# Altium footprint library FlybackKutuphane.PcbLib: 22 footprints (part 1 of 2)
Each footprint in its own frame and in the unit in brackets; x right, y up, seen from the top. Pads: shape width x height; smd on the part's side, far side on the other; paste and mask are expansions set on the pad; w line width, h text height; cw(c..) or ccw(c..) is an arc to the next point about the centre after c.
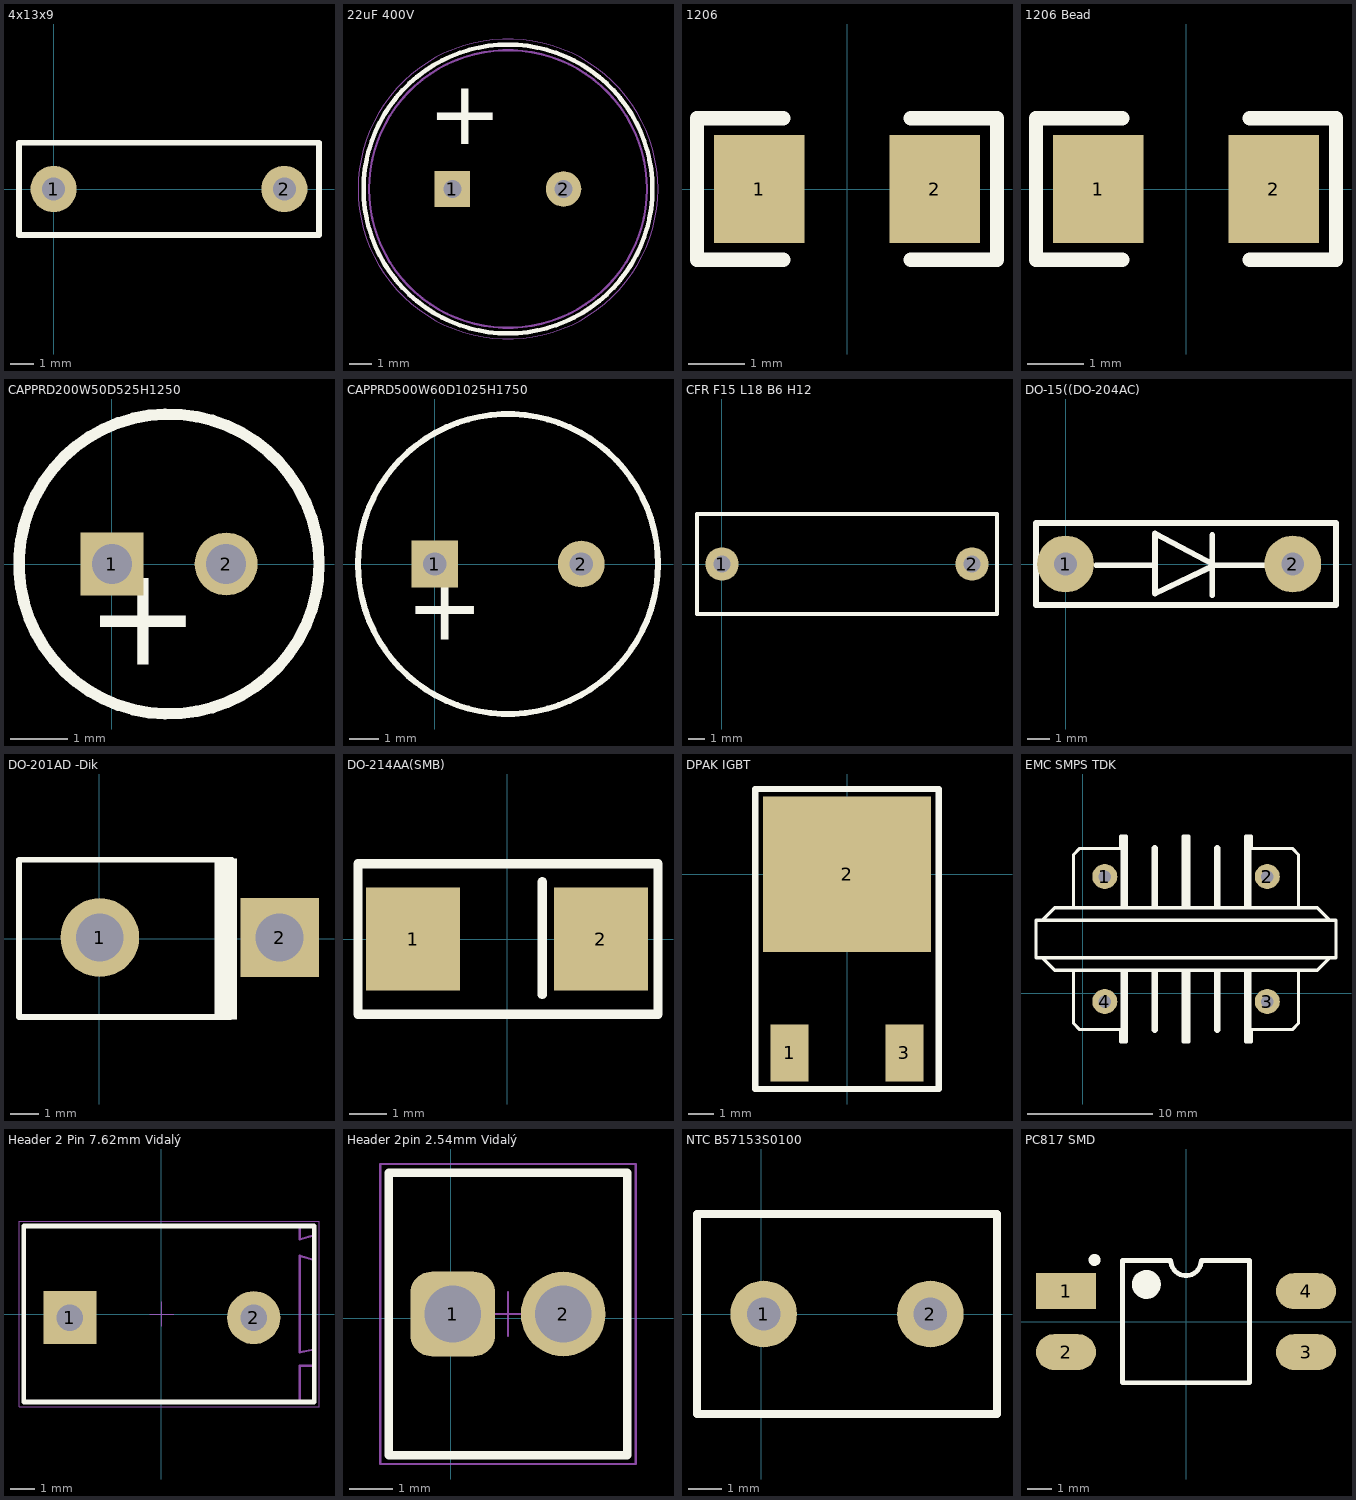
[diagram p0: the footprints below, top view; thin cyan lines are the x and y axes]

## 4x13x9 [mm] "4x13x9"
pads (2):
  round 2 hole 1: 1(0,0) 2(10,0)
Top Overlay:
  lines w0.25: -1.5,-2 -1.5,2 11.5,2
  lines w0.254: -1.5,-2 11.5,-2 11.5,2
3D body: height 9, standoff 0, extent -1.5,-2 11.5,2

## 22uF 400V [mm] "400AX22MEFC12.5X16"
pads (2):
  rect 1.6x1.6 hole 0.8: 1(7.622,13.757)
  round 1.6 hole 0.8: 2(12.622,13.757)
Top Overlay:
  circle w0.2: c10.122,13.757 r6.5
  text "+" at 6.5,14.8 h5
Mechanical 13:
  circle w0.1: c10.122,13.757 r6.25
Mechanical 15:
  circle w0.05: c10.122,13.757 r6.75
3D body "13x20x5x0.6.stp": height 20.31, standoff -19.91, extent 3.609,7.267 16.599,20.267

## 1206 [mm]
pads (2):
  rect 1.6x1.9 smd: 1(-1.55,0) 2(1.55,0)
Top Overlay:
  lines w0.25: -1.127,-1.25 -2.65,-1.25 -2.65,0 -2.65,1.25 -1.127,1.25 ; 1.127,-1.25 2.65,-1.25 2.65,1.25 1.127,1.25
3D body "C1206.step": height 0.8, standoff 0, extent -1.6,-0.8 1.6,0.8

## 1206 Bead [mm] "1206 Bead"
pads (2):
  rect 1.6x1.9 smd: 1(-1.55,0) 2(1.55,0)
Top Overlay:
  lines w0.25: -1.127,-1.25 -2.65,-1.25 -2.65,0 -2.65,1.25 -1.127,1.25 ; 1.127,-1.25 2.65,-1.25 2.65,1.25 1.127,1.25
3D body "HI1206T500R-10.stp": height 1.3, standoff 0, extent -1.6,-0.774 1.6,0.826

## CAPPRD200W50D525H1250 [mm]
pads (2):
  rect 1.1x1.1 hole 0.7: 1(0,0)
  round 1.1 hole 0.7: 2(2,0)
Top Overlay:
  circle w0.2: c1,0 r2.625
  text "+" at -0.457,-2.337 h3
Mechanical 13:
  circle w0.1: c1,0 r2.625
3D body "5x11x2x0.5.stp": height 11.31, standoff -19.91, extent -1.484,-2.5 3.506,2.5

## CAPPRD500W60D1025H1750 [mm]
pads (2):
  rect 1.6x1.6 hole 0.8: 1(0,0)
  round 1.6 hole 0.8: 2(5,0)
Top Overlay:
  circle w0.2: c2.5,0 r5.125
  text "+" at -0.991,-3.353 h4
Mechanical 13:
  circle w0.1: c2.5,0 r5.125
3D body "10x20x5x0.6.stp": height 20.26, standoff -19.96, extent -2.485,-4.998 7.505,5

## CFR F15 L18 B6 H12 [mm]
pads (2):
  round 2 hole 1: 1(0,0) 2(15,0)
Top Overlay:
  lines w0.254: -1.5,-3 16.5,-3 16.5,3 -1.5,3 -1.5,-3
3D body "CFR F15 L18 B6 H12.stp": height 12, standoff -3, extent -1.5,-3 16.5,3

## DO-15((DO-204AC) [mm] "Diode, Axial; Body 9.5 x 5.6 mm (LxDia. max), Lead Dia. 1.32 mm (max)"
height 5.6
pads (2):
  round 2.5 hole 1: 1(0,0) 2(10,0)
Top Overlay:
  lines w0.254: 1.346,-0.051 3.937,-0.051 ; 6.452,-1.372 6.452,1.27 ; 6.477,-0.051 8.814,-0.051 ; -1.3,-1.8 11.9,-1.8 11.9,1.8 -1.3,1.8 -1.3,-1.8 ; 3.937,-1.295 6.553,-0.051 3.937,1.346 3.937,-1.295
3D body "DO41.STEP": height 2.84, standoff -2.52, extent -0.447,-1.337 10.412,1.388

## DO-201AD -Dik [mm] "Diode, Axial; Body 9.5 x 5.6 mm (LxDia. max), Lead Dia. 1.32 mm (max)"
height 5.6
pads (2):
  round 2.8 hole 1.7: 1(0.015,0.045)
  rect 2.8x2.8 hole 1.7: 2(6.412,0.045)
Top Overlay:
  rectangle: 4.088,-2.876 4.888,2.864
  lines w0.2: 4.66,-2.781 -2.859,-2.781 -2.859,2.819 4.711,2.819
3D body "User Library-User Library-DO-201AV-Vertical_2001.STEP": height 15.69, standoff -3, extent -2.8,-2.8 7.09,2.8

## DO-214AA(SMB) [mm]
pads (2):
  rect 2.5x2.743 smd: 1(-2.5,0) 2(2.5,0)
Top Overlay:
  lines w0.25: 0.94,-1.476 0.94,1.524 ; -3.967,-2 4.018,-2 4.018,2 -3.967,2 -3.967,0 -3.967,-2
3D body "DO214AA.step": height 2.27, standoff -0.03, extent -2.7,-1.8 2.7,1.8

## DPAK IGBT [mm]
pads (3):
  rect 1.524x2.28 smd: 1(-2.3,-7.145) 3(2.3,-7.145)
  rect 6.74x6.23 smd: 2(0,0)
Top Overlay:
  lines w0.254: 3.67,-3.011 3.67,3.415 -3.67,3.415 -3.67,-8.59 3.67,-8.59 3.67,-2.164
3D body "FFSD0465A.stp": height 2.49, standoff 0, extent -3.295,-7.675 3.245,2.72

## EMC SMPS TDK [mm] "B82732R13MM"
pads (4):
  round 2 hole 1: 1(1.778,9.322) 2(14.778,9.322) 3(14.778,-0.678) 4(1.778,-0.678)
Top Overlay:
  lines w0.254: -3.222,2.822 -2.222,1.822 18.778,1.822 19.778,2.822 ; -3.222,5.822 -2.222,6.822 18.778,6.822 19.778,5.822 ; -0.972,6.822 17.528,6.822 ; -0.722,1.822 -0.722,-2.428 -0.222,-2.928 3.028,-2.928 3.028,-3.928 3.528,-3.928 3.528,1.822 ; -0.722,6.822 -0.722,11.072 -0.222,11.572 3.028,11.572 3.028,12.572 3.528,12.572 3.528,6.822 ; 8.028,1.822 8.028,-3.928 8.528,-3.928 8.528,1.822 ; 8.028,6.822 8.028,12.572 8.528,12.572 8.528,6.822 ; 13.028,1.822 13.028,-3.928 13.528,-3.928 13.528,-2.928 16.778,-2.928 17.278,-2.428 17.278,1.822 ; 13.028,6.822 13.028,12.572 13.528,12.572 13.528,11.572 16.778,11.572 17.278,11.072 17.278,6.822 ; -3.722,2.822 20.278,2.822 20.278,5.822 -3.722,5.822 -3.722,2.822
  lines w0.508: 3.278,-3.678 3.278,1.572 ; 3.278,7.072 3.278,12.322 ; 5.778,-2.928 5.778,1.572 ; 5.778,7.072 5.778,11.572 ; 8.278,-3.678 8.278,1.572 ; 8.278,7.072 8.278,12.322 ; 10.778,-2.928 10.778,1.572 ; 10.778,7.072 10.778,11.572 ; 13.278,-3.678 13.278,1.572 ; 13.278,7.072 13.278,12.322
3D body "B82732R2701B030.stp": height 23.6, standoff -2.9, extent -3.77,-3.932 20.23,12.568

## Header 2 Pin 7.62mm Vidalý [mm]
pads (2):
  rect 2.2x2.2 hole 1.1: 1(-3.78,-0.143)
  round 2.2 hole 1.1: 2(3.84,-0.143)
Top Overlay:
  lines w0.2: -5.685,-3.643 -5.685,3.657 6.345,3.657 6.345,3.272 6.345,2.242 6.345,-1.463 6.345,-2.143 6.345,-3.643 -5.685,-3.643
Mechanical 11:
  lines w0.1: -5.685,-3.643 5.745,-3.643 5.745,-2.143 6.345,-2.143 6.345,-1.463 5.745,-1.573 5.745,2.417 6.345,2.242 6.345,3.272 5.745,3.097 5.745,3.657 -5.685,3.657 -5.685,-3.643
Mechanical 13:
  lines w0.1: -5.685,-3.643 -5.685,3.657 5.745,3.657 5.745,3.097 6.345,3.272 6.345,2.242 5.745,2.417 5.745,-1.573 6.345,-1.463 6.345,-2.143 5.745,-2.143 5.745,-3.643 -5.685,-3.643
Mechanical 15:
  lines w0.05: -0.47,0.007 0.53,0.007 ; 0.03,-0.493 0.03,0.507 ; -5.885,-3.843 -5.885,3.857 6.545,3.857 6.545,-3.843 -5.885,-3.843
3D body "691214410002.stp": height 9.2, standoff -3.4, extent -5.685,-3.643 6.345,3.657

## Header 2pin 2.54mm Vidalý [mm] "Header 2pin 2.54mm Vidalý"
height 11.5
pads (2):
  rrect50% 1.95x1.95 hole 1.3: 1(0.051,0.102)
  round 1.95 hole 1.3: 2(2.591,0.102)
Top Overlay:
  lines w0.2: -1.419,-3.148 -1.419,3.352 4.061,3.352 4.061,-3.148 -1.419,-3.148
Mechanical 11:
  lines w0.1: -1.419,-3.148 4.061,-3.148 4.061,3.352 -1.419,3.352 -1.419,-3.148
Mechanical 13:
  lines w0.1: -1.419,-3.148 -1.419,3.352 4.061,3.352 4.061,-3.148 -1.419,-3.148
Mechanical 15:
  lines w0.05: 0.821,0.102 1.821,0.102 ; 1.321,-0.398 1.321,0.602 ; -1.619,-3.348 4.261,-3.348 4.261,3.552 -1.619,3.552 -1.619,-3.348
3D body "691210910002.stp": height 8.55, standoff -3.45, extent -1.419,-3.148 4.061,3.352

## NTC B57153S0100 [mm] "NTC B57153S0100"
pads (2):
  round 2 hole 1: 1(0.076,0) 2(5.076,0)
Top Overlay:
  lines w0.2: -1.924,-3 -1.924,3
  lines w0.254: -1.924,3 -1.924,-3 7.076,-3 7.076,3 ; -1.924,3 7.076,3 ; -1.924,3 7.076,3
3D body "NTC F5 D8.5 B6 H13.step": height 13, standoff -3.6, extent -1.604,-3.075 6.887,3.125

## PC817 SMD [mm] "DIP; 4 Leads; Row Spacing 7.62 mm; Pitch 2.54 mm"
height 5.6
pads (4):
  rect 2.5x1.5 smd: 1(-5,1.27)
  oval 2.5x1.5 smd: 2(-5,-1.27) 3(5,-1.27) 4(5,1.27)
Top Overlay:
  circle w0.25: c-3.81,2.57 r0.125
  circle w0.6: c-1.65,1.55 r0.3
  lines w0.2: -2.65,-2.55 -2.65,2.55 -0.635,2.55 ccw(c0,2.55) 0.635,2.55 2.65,2.55 2.65,-2.55 -2.65,-2.55
3D body "TPC817S1A_RAG.stp": height 3.88, standoff 0, extent -5.127,-2.314 4.923,2.286